# Altium footprint library LED.PcbLib: 44 footprints (part 3 of 3)
Each footprint in its own frame and in the unit in brackets; x right, y up, seen from the top. Pads: shape width x height; smd on the part's side, far side on the other; paste and mask are expansions set on the pad; w line width, h text height; cw(c..) or ccw(c..) is an arc to the next point about the centre after c.
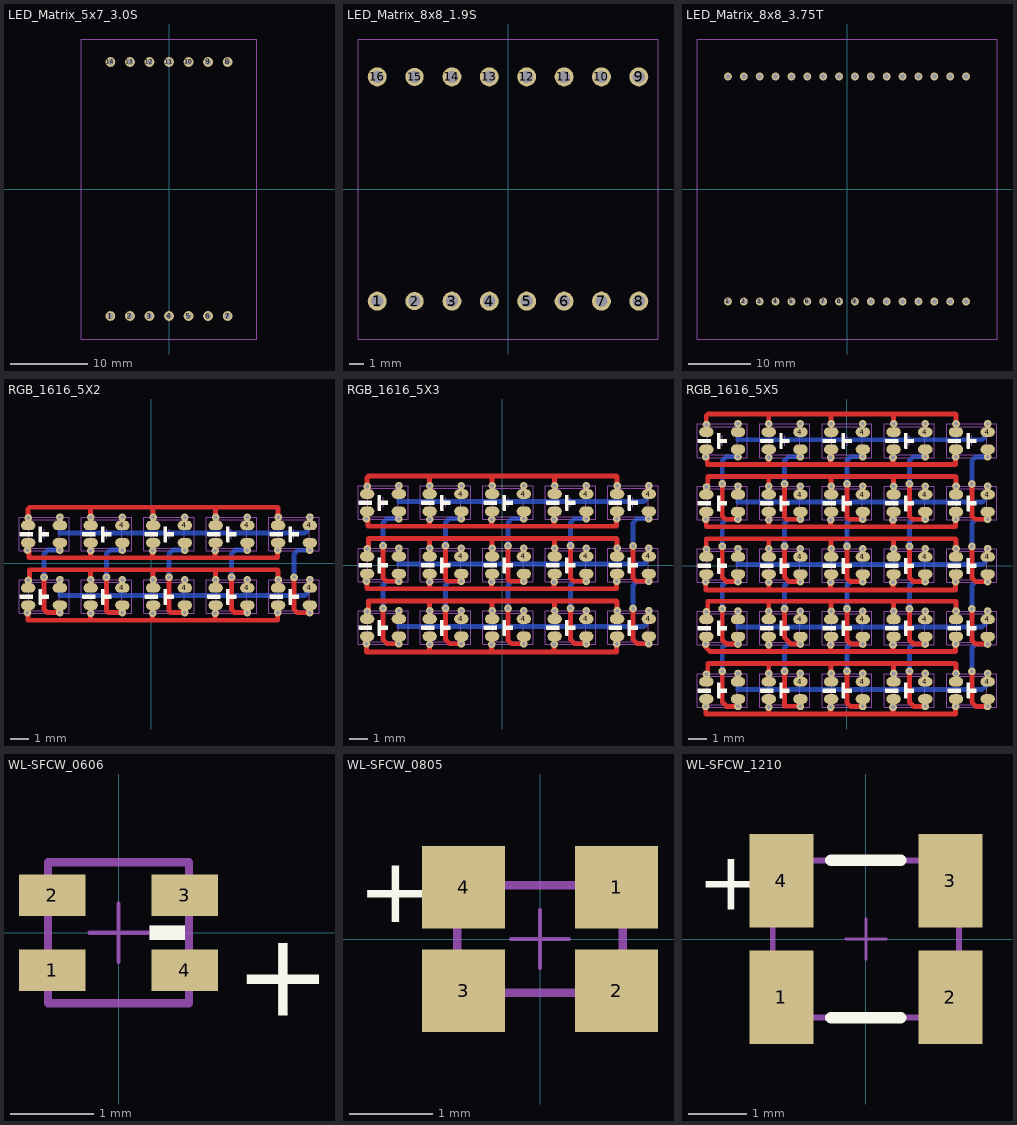
[diagram p2: the footprints below, top view; thin cyan lines are the x and y axes]

## LED_DIP2_5_RED [mil]
height 47.24
3D body "SW3dPS-LEDd5R.STEP": height 484.75, standoff -97.93, extent -123.39,-123.5 90,113.5

## LED_DIP2_5_WHITE [mil]
height 47.24
3D body "SW3dPS-LEDd5C.STEP": height 484.75, standoff -97.93, extent -107.31,-118.49 106.08,118.5

## LED_DIP2_5_YELLOW [mil]
height 47.24
3D body "SW3dPS-LEDd5Y.STEP": height 484.75, standoff -97.93, extent -113.39,-113.5 100,123.5

## LED_Matrix_5x7_3.0S [mil]
pads (14):
  round 50 hole 32: 1(-300,-650) 2(-200,-650) 3(-100,-650) 4(0,-650) 5(100,-650) 6(200,-650) 7(300,-650) 8(300,650) 9(200,650) 10(100,650) 11(0,650) 12(-100,650) 13(-200,650) 14(-300,650)
Mechanical 14:
  lines w2: -448.82,-767.72 -448.82,767.72 448.82,767.72 448.82,-767.72 -448.82,-767.72

## LED_Matrix_8x8_1.9S [mm]
pads (16):
  round 1.27 hole 0.813: 1(-8.75,-7.5) 3(-3.75,-7.5) 4(-1.25,-7.5) 5(1.25,-7.5) 6(3.75,-7.5) 7(6.25,-7.5) 8(8.75,-7.5) 9(8.75,7.5) 10(6.25,7.5) 11(3.75,7.5) 12(1.25,7.5) 13(-1.25,7.5) 14(-3.75,7.5) 16(-8.75,7.5)
  round 1.219 hole 0.813: 2(-6.25,-7.5) 15(-6.25,7.5)
Mechanical 14:
  lines w0.051: -10.033,-10.033 -10.033,10.033 10.033,10.033 10.033,-10.033 -10.033,-10.033
3D body "User Library-1_9mm matrix.STEP": height 6, standoff -5, extent -10,-10 10,10

## LED_Matrix_8x8_3.75T [mil]
pads (32):
  round 50 hole 32: 1(-750,-708.66) 2(-650,-708.66) 3(-550,-708.66) 4(-450,-708.66) 5(-350,-708.66) 6(-250,-708.66) 7(-150,-708.66) 8(-50,-708.66) 9(50,-708.66) 10(150,-708.66) 11(250,-708.66) 12(350,-708.66) 13(450,-708.66) 14(550,-708.66) 15(650,-708.66) 16(750,-708.66) 17(750,708.66) 18(650,708.66) 19(550,708.66) 20(450,708.66) 21(350,708.66) 22(250,708.66) 23(150,708.66) 24(50,708.66) 25(-50,708.66) 26(-150,708.66) 27(-250,708.66) 28(-350,708.66) 29(-450,708.66) 30(-550,708.66) 31(-650,708.66) 32(-750,708.66)
Mechanical 14:
  lines w2: -944.88,-944.88 944.88,-944.88 944.88,944.88 -944.88,944.88 -944.88,-944.88
Mechanical 15:
  lines w2: -750,708.66 -750,717.32 ; 750,-717.32 750,-708.66

## RGB_1616_5X2 [mil]
pads (67):
  oval 30x20 smd: 4(-59.92,-51.08) 4(-59.92,78.84) 4(70,-51.08) 4(70,78.84) 4(199.92,-51.08) 4(199.92,78.84) 4(329.84,-51.08) 4(329.84,78.84) ""(-255.84,-87.08) ""(-255.84,-51.08) ""(-255.84,42.84) ""(-255.84,78.84) ""(-189.84,-87.08) ""(-189.84,-51.08) ""(-189.84,42.84) ""(-189.84,78.84) ""(-125.92,-87.08) ""(-125.92,-51.08) ""(-125.92,42.84) ""(-125.92,78.84) ""(-59.92,-87.08) ""(-59.92,42.84) ""(4,-87.08) ""(4,-51.08) ""(4,42.84) ""(4,78.84) ""(70,-87.08) ""(70,42.84) ""(133.92,-87.08) ""(133.92,-51.08) ""(133.92,42.84) ""(133.92,78.84) ""(199.92,-87.08) ""(199.92,42.84) ""(263.84,-87.08) ""(263.84,-51.08) ""(263.84,42.84) ""(263.84,78.84) ""(329.84,-87.08) ""(329.84,42.84)
  round 16 hole 7.5: B1(-257.31,27.5) B1(263,27.5) B2(-257.31,-102.42) B2(263,-102.42) COM1(-190,-102.42) COM1(-190,27.5) COM2(-60.08,-102.42) COM2(-60.08,27.5) COM3(69.84,-102.42) COM3(69.84,27.5) COM4(199.76,-102.42) COM4(199.76,27.5) COM5(329.69,-102.42) COM5(329.69,27.5) G1(-255.5,94.5) G1(264,96) G2(-255.5,-35.42) G2(264,-33.92) R1(-189.84,96) R1(329.84,96) R2(-189.84,-33.92) R2(329.84,-33.92) ""(-222.76,-29) ""(-93,-29) ""(37,-29) ""(167,-29) ""(297,-29.26)
via 133.92,96 diameter 15.75 hole 7.87
via 199.92,96 diameter 15.75 hole 7.87
via 4,96 diameter 15.75 hole 7.87
via 70,96 diameter 15.75 hole 7.87
via -59.92,96 diameter 15.75 hole 7.87
via -125.92,96 diameter 15.75 hole 7.87
via 132.76,26 diameter 15.75 hole 7.87
via 2.84,26 diameter 15.75 hole 7.87
via -125.92,26 diameter 15.75 hole 7.87
via -125.92,-103.92 diameter 15.75 hole 7.87
via 2.84,-103.92 diameter 15.75 hole 7.87
via 132.76,-103.92 diameter 15.75 hole 7.87
via -125.92,-33.92 diameter 15.75 hole 7.87
via -59.92,-33.92 diameter 15.75 hole 7.87
via 70,-33.92 diameter 15.75 hole 7.87
via 4,-33.92 diameter 15.75 hole 7.87
via 199.92,-33.92 diameter 15.75 hole 7.87
via 133.92,-33.92 diameter 15.75 hole 7.87
Top Layer:
  lines w5: -257,-119.24 -256,-118.24 ; -257,-103.92 -257,-88.24 ; -257,26 -257,41.69 ; -255.84,113.5 -252.84,116.5 ; -255.5,-50.74 -255.5,-35.42 ; -255.5,79.19 -255.5,94.5 ; -190,-102.42 -190,-87.24 ; -190,27.5 -190,42.69 ; -189.84,-51.08 -189.84,-33.92 ; -189.84,78.84 -189.84,96 ; -125.92,-104.92 -125.92,-87.08 ; -125.92,-51.08 -125.92,-33.92 ; -125.92,25 -125.92,42.84 ; -125.92,78.84 -125.92,96 ; -60.08,-102.42 -60.08,-87.24 ; -60.08,27.5 -60.08,42.69 ; -59.92,-51.08 -59.92,-33.92 ; -59.92,78.84 -59.92,96 ; 2.84,-103.92 2.84,-88.24 ; 2.84,26 2.84,41.69 ; 4,-51.08 4,-33.92 ; 4,78.84 4,96 ; 69.84,-102.42 69.84,-87.24 ; 69.84,27.5 69.84,42.69 ; 70,-51.08 70,-33.92 ; 70,78.84 70,96 ; 133.92,-51.08 133.92,-33.92 ; 199.76,-102.42 199.76,-87.24 ; 199.76,27.5 199.76,42.69 ; 199.92,-51.08 199.92,-33.92 ; 199.92,78.84 199.92,96 ; 263,-102.42 263,-87.92 ; 263,-13.42 263.84,-14.26 ; 263,27.5 263,42 ; 263,116.5 263.84,115.66 ; 264,-50.92 264,-33.92 ; 264,79 264,96 ; 329.69,-102.42 329.69,-87.24 ; 329.69,27.5 329.69,42.69 ; 329.84,-51.08 329.84,-33.92 ; 329.84,78.84 329.84,96 ; 132.76,-103.92 132.76,-88.24 132.76,-103.92 ; 132.76,26 132.76,41.69 132.76,26 ; 133.92,78.84 133.92,96 133.92,78.84
  lines w10: -256,-103.74 -256,-118.24 -236.81,-118.24 262.69,-118.24 262.69,-103.92 ; -255.84,-33.92 -252.84,-30.92 -252.84,-13.42 263,-13.42 ; -255.84,96 -255.84,113.5 ; -254,27.5 -254,11.69 -236.81,11.69 262.69,11.69 262.69,26 ; -252.84,116.5 263,116.5 ; -222.76,-29 -222.76,-95.92 -216.26,-102.42 -190,-102.42 ; -125.92,-116 -125.92,-104.92 ; -125.92,-33.92 -125.92,-14.34 ; -125.92,14 -125.92,25 ; -125.92,96 -125.92,115.58 ; -93,-29 -93,-98.5 -89.08,-102.42 -60.08,-102.42 ; 2.84,-118 2.84,-103.92 ; 2.84,14 2.84,26 ; 4,-33.92 4,-13.42 ; 4,96 4,116.5 ; 37,-29 37,-98.84 40.58,-102.42 69.84,-102.42 ; 132.76,-116 132.76,-103.92 ; 132.76,15 132.76,26 ; 133.92,-33.92 133.92,-14.34 ; 133.92,96 133.92,115.58 ; 167,-29 167,-95.92 173.5,-102.42 199.76,-102.42 ; 263.84,-33.92 263.84,-14.26 ; 263.84,96 263.84,115.66 ; 297,-29.26 297,-96.19 303.5,-102.69 329.76,-102.69
Bottom Layer:
  lines w10: -222.76,-29 -222.76,19 ; -222.76,19.5 -214.76,27.5 -190,27.5 ; -189.84,-33.92 -189.84,-64.76 -189.84,-66.92 318.69,-66.92 329.84,-55.76 329.84,-33.92 ; -189.84,96 -189.84,65.16 -189.84,63 318.69,63 329.84,74.16 329.84,96 ; -93,-29 -93,19 ; -93,19.5 -85,27.5 -60.24,27.5 ; -60.5,-65.92 -60.5,-34.5 ; -60.5,64 -60.5,95.42 ; 37,-29 37,19 ; 37,19.5 45,27.5 69.76,27.5 ; 69,-65.92 69,-34.92 ; 69,64 69,95 ; 167,-29 167,19 167,19.5 175,27.5 199.76,27.5 ; 199.92,-66.42 199.92,-33.92 ; 199.92,63.5 199.92,96 ; 297,-29.26 297,18.74 ; 297,19.24 305,27.24 329.76,27.24 ; 329.34,-102.76 329.69,-102.42
Top Overlay:
  drawing of 140 lines, arcs and shapes, not listed
Mechanical 13:
  lines w2: -232.84,-69.08 -212.84,-69.08 ; -232.84,60.84 -212.84,60.84 ; -222.84,-79.08 -222.84,-59.08 ; -222.84,50.84 -222.84,70.84 ; -102.92,-69.08 -82.92,-69.08 ; -102.92,60.84 -82.92,60.84 ; -92.92,-79.08 -92.92,-59.08 ; -92.92,50.84 -92.92,70.84 ; 27,-69.08 47,-69.08 ; 27,60.84 47,60.84 ; 37,-79.08 37,-59.08 ; 37,50.84 37,70.84 ; 156.92,-69.08 176.92,-69.08 ; 156.92,60.84 176.92,60.84 ; 166.92,-79.08 166.92,-59.08 ; 166.92,50.84 166.92,70.84 ; 286.84,-69.08 306.84,-69.08 ; 286.84,60.84 306.84,60.84 ; 296.84,-79.08 296.84,-59.08 ; 296.84,50.84 296.84,70.84 ; -254.34,-98.61 -254.34,-39.55 -191.35,-39.55 -191.35,-98.61 -254.34,-98.61 ; -254.34,31.31 -191.35,31.31 -191.35,90.37 -254.34,90.37 -254.34,31.31 ; -124.42,-98.61 -61.43,-98.61 -61.43,-39.55 -124.42,-39.55 -124.42,-98.61 ; -124.42,31.31 -124.42,90.37 -61.43,90.37 -61.43,31.31 -124.42,31.31 ; 5.5,-98.61 68.49,-98.61 68.49,-39.55 5.5,-39.55 5.5,-98.61 ; 5.5,31.31 5.5,90.37 68.49,90.37 68.49,31.31 5.5,31.31 ; 135.42,-98.61 198.41,-98.61 198.41,-39.55 135.42,-39.55 135.42,-98.61 ; 135.42,31.31 135.42,90.37 198.41,90.37 198.41,31.31 135.42,31.31 ; 265.34,-98.61 328.34,-98.61 328.34,-39.55 265.34,-39.55 265.34,-98.61 ; 265.34,31.31 265.34,90.37 328.34,90.37 328.34,31.31 265.34,31.31
Mechanical 14:
  lines w2: -274.84,-104.08 -274.84,-34.08 -170.84,-34.08 -170.84,-104.08 -274.84,-104.08 ; -274.84,25.84 -170.84,25.84 -170.84,95.84 -274.84,95.84 -274.84,25.84 ; -144.92,-104.08 -40.92,-104.08 -40.92,-34.08 -144.92,-34.08 -144.92,-104.08 ; -144.92,25.84 -144.92,95.84 -40.92,95.84 -40.92,25.84 -144.92,25.84 ; -15,-104.08 89,-104.08 89,-34.08 -15,-34.08 -15,-104.08 ; -15,25.84 -15,95.84 89,95.84 89,25.84 -15,25.84 ; 114.92,-104.08 218.92,-104.08 218.92,-34.08 114.92,-34.08 114.92,-104.08 ; 114.92,25.84 114.92,95.84 218.92,95.84 218.92,25.84 114.92,25.84 ; 244.84,-104.08 348.84,-104.08 348.84,-34.08 244.84,-34.08 244.84,-104.08 ; 244.84,25.84 244.84,95.84 348.84,95.84 348.84,25.84 244.84,25.84
3D body "User Library-HSMF-C114.STEP": height 13.39, standoff -0.39, extent 265.34,31.31 328.34,90.37
3D body "User Library-HSMF-C114.STEP": height 13.39, standoff -0.39, extent 135.42,31.31 198.41,90.37
3D body "User Library-HSMF-C114.STEP": height 13.39, standoff -0.39, extent 5.5,31.31 68.49,90.37
3D body "User Library-HSMF-C114.STEP": height 13.39, standoff -0.39, extent -124.42,31.31 -61.43,90.37
3D body "User Library-HSMF-C114.STEP": height 13.39, standoff -0.39, extent -254.34,31.31 -191.35,90.37
3D body "User Library-HSMF-C114.STEP": height 13.39, standoff -0.39, extent -254.34,-98.61 -191.35,-39.55
3D body "User Library-HSMF-C114.STEP": height 13.39, standoff -0.39, extent -124.42,-98.61 -61.43,-39.55
3D body "User Library-HSMF-C114.STEP": height 13.39, standoff -0.39, extent 5.5,-98.61 68.49,-39.55
3D body "User Library-HSMF-C114.STEP": height 13.39, standoff -0.39, extent 135.42,-98.61 198.41,-39.55
3D body "User Library-HSMF-C114.STEP": height 13.39, standoff -0.39, extent 265.34,-98.61 328.34,-39.55

## RGB_1616_5X3 [mil]
pads (103):
  oval 30x20 smd: 4(-84.92,-112) 4(-84.92,17.92) 4(-84.92,147.84) 4(45,-112) 4(45,17.92) 4(45,147.84) 4(174.92,-112) 4(174.92,17.92) 4(174.92,147.84) 4(304.84,-112) 4(304.84,17.92) 4(304.84,147.84) ""(-280.84,-148) ""(-280.84,-112) ""(-280.84,-18.08) ""(-280.84,17.92) ""(-280.84,111.84) ""(-280.84,147.84) ""(-214.84,-148) ""(-214.84,-112) ""(-214.84,-18.08) ""(-214.84,17.92) ""(-214.84,111.84) ""(-214.84,147.84) ""(-150.92,-148) ""(-150.92,-112) ""(-150.92,-18.08) ""(-150.92,17.92) ""(-150.92,111.84) ""(-150.92,147.84) ""(-84.92,-148) ""(-84.92,-18.08) ""(-84.92,111.84) ""(-21,-148) ""(-21,-112) ""(-21,-18.08) ""(-21,17.92) ""(-21,111.84) ""(-21,147.84) ""(45,-148) ""(45,-18.08) ""(45,111.84) ""(108.92,-148) ""(108.92,-112) ""(108.92,-18.08) ""(108.92,17.92) ""(108.92,111.84) ""(108.92,147.84) ""(174.92,-148) ""(174.92,-18.08) ""(174.92,111.84) ""(238.84,-148) ""(238.84,-112) ""(238.84,-18.08) ""(238.84,17.92) ""(238.84,111.84) ""(238.84,147.84) ""(304.84,-148) ""(304.84,-18.08) ""(304.84,111.84)
  round 16 hole 7.5: B1(-282.31,96.5) B1(238,96.5) B2(-282.31,-33.42) B2(238,-33.42) B3(-282.31,-163.34) B3(238,-163.34) COM1(-215,-163.34) COM1(-215,-33.42) COM1(-215,96.5) COM2(-85.08,-163.34) COM2(-85.08,-33.42) COM2(-85.08,96.5) COM3(44.84,-163.34) COM3(44.84,-33.42) COM3(44.84,96.5) COM4(174.76,-163.34) COM4(174.76,-33.42) COM4(174.76,96.5) COM5(304.69,-163.34) COM5(304.69,-33.42) COM5(304.69,96.5) G1(-280.5,163.5) G1(239,165) G2(-280.5,33.58) G2(239,35.08) G3(-280.5,-96.34) G3(239,-94.84) R1(-214.84,165) R1(304.84,165) R2(-214.84,35.08) R2(304.84,35.08) R3(-214.84,-94.84) R3(304.84,-94.84) ""(-247.76,-90) ""(-247.76,40) ""(-118,-90) ""(-118,40) ""(12,-90) ""(12,40) ""(142,-90) ""(142,40) ""(272,-90.26) ""(272,39.74)
via 108.92,165 diameter 15.75 hole 7.87
via 174.92,165 diameter 15.75 hole 7.87
via -21,165 diameter 15.75 hole 7.87
via 45,165 diameter 15.75 hole 7.87
via -84.92,165 diameter 15.75 hole 7.87
via -150.92,165 diameter 15.75 hole 7.87
via 107.76,95 diameter 15.75 hole 7.87
via -22.16,95 diameter 15.75 hole 7.87
via -150.92,95 diameter 15.75 hole 7.87
via -150.92,-34.92 diameter 15.75 hole 7.87
via -22.16,-34.92 diameter 15.75 hole 7.87
via 107.76,-34.92 diameter 15.75 hole 7.87
via -150.92,35.08 diameter 15.75 hole 7.87
via -84.92,35.08 diameter 15.75 hole 7.87
via 45,35.08 diameter 15.75 hole 7.87
via -21,35.08 diameter 15.75 hole 7.87
via 174.92,35.08 diameter 15.75 hole 7.87
via 108.92,35.08 diameter 15.75 hole 7.87
via -150.92,-164.84 diameter 15.75 hole 7.87
via -22.16,-164.84 diameter 15.75 hole 7.87
via 107.76,-164.84 diameter 15.75 hole 7.87
via -150.92,-94.84 diameter 15.75 hole 7.87
via -84.92,-94.84 diameter 15.75 hole 7.87
via 45,-94.84 diameter 15.75 hole 7.87
via -21,-94.84 diameter 15.75 hole 7.87
via 174.92,-94.84 diameter 15.75 hole 7.87
via 108.92,-94.84 diameter 15.75 hole 7.87
Top Layer:
  lines w5: -282,-164.84 -282,-149.16 ; -282,-50.24 -281,-49.24 ; -282,-34.92 -282,-19.24 ; -282,95 -282,110.69 ; -280.84,182.5 -277.84,185.5 ; -280.5,-111.66 -280.5,-96.34 ; -280.5,18.26 -280.5,33.58 ; -280.5,148.19 -280.5,163.5 ; -215,-163.34 -215,-148.16 ; -215,-33.42 -215,-18.24 ; -215,96.5 -215,111.69 ; -214.84,-112 -214.84,-94.84 ; -214.84,17.92 -214.84,35.08 ; -214.84,147.84 -214.84,165 ; -150.92,-165.84 -150.92,-148 ; -150.92,-112 -150.92,-94.84 ; -150.92,-35.92 -150.92,-18.08 ; -150.92,17.92 -150.92,35.08 ; -150.92,94 -150.92,111.84 ; -150.92,147.84 -150.92,165 ; -85.08,-163.34 -85.08,-148.16 ; -85.08,-33.42 -85.08,-18.24 ; -85.08,96.5 -85.08,111.69 ; -84.92,-112 -84.92,-94.84 ; -84.92,17.92 -84.92,35.08 ; -84.92,147.84 -84.92,165 ; -22.16,-164.84 -22.16,-149.16 ; -22.16,-34.92 -22.16,-19.24 ; -22.16,95 -22.16,110.69 ; -21,-112 -21,-94.84 ; -21,17.92 -21,35.08 ; -21,147.84 -21,165 ; 44.84,-163.34 44.84,-148.16 ; 44.84,-33.42 44.84,-18.24 ; 44.84,96.5 44.84,111.69 ; 45,-112 45,-94.84 ; 45,17.92 45,35.08 ; 45,147.84 45,165 ; 108.92,-112 108.92,-94.84 ; 108.92,17.92 108.92,35.08 ; 174.76,-163.34 174.76,-148.16 ; 174.76,-33.42 174.76,-18.24 ; 174.76,96.5 174.76,111.69 ; 174.92,-112 174.92,-94.84 ; 174.92,17.92 174.92,35.08 ; 174.92,147.84 174.92,165 ; 238,-163.34 238,-148.84 ; 238,-74.34 238.84,-75.19 ; 238,-33.42 238,-18.92 ; 238,55.58 238.84,54.74 ; 238,96.5 238,111 ; 238,185.5 238.84,184.66 ; 239,-111.84 239,-94.84 ; 239,18.08 239,35.08 ; 239,148 239,165 ; 304.69,-163.34 304.69,-148.16 ; 304.69,-33.42 304.69,-18.24 ; 304.69,96.5 304.69,111.69 ; 304.84,-112 304.84,-94.84 ; 304.84,17.92 304.84,35.08 ; 304.84,147.84 304.84,165 ; 107.76,-164.84 107.76,-149.16 107.76,-164.84 ; 107.76,-34.92 107.76,-19.24 107.76,-34.92 ; 107.76,95 107.76,110.69 107.76,95 ; 108.92,147.84 108.92,165 108.92,147.84
  lines w10: -282,-164.84 -282,-180.84 -263.5,-180.84 237.69,-180.84 237.69,-164.84 ; -281,-34.74 -281,-49.24 -261.81,-49.24 237.69,-49.24 237.69,-34.92 ; -280.84,-94.84 -277.84,-91.84 -277.84,-74.34 238,-74.34 ; -280.84,35.08 -277.84,38.08 -277.84,55.58 238,55.58 ; -280.84,165 -280.84,182.5 ; -279,96.5 -279,80.69 -261.81,80.69 237.69,80.69 237.69,95 ; -277.84,185.5 238,185.5 ; -247.76,-90 -247.76,-154.89 -239.31,-163.34 -215,-163.34 ; -247.76,40 -247.76,-26.92 -241.26,-33.42 -215,-33.42 ; -150.92,-176 -150.92,-165.84 ; -150.92,-94.84 -150.92,-75.26 ; -150.92,-47 -150.92,-35.92 ; -150.92,35.08 -150.92,54.66 ; -150.92,83 -150.92,94 ; -150.92,165 -150.92,184.58 ; -118,-90 -118,-154.34 -109,-163.34 -85.08,-163.34 ; -118,40 -118,-29.5 -114.08,-33.42 -85.08,-33.42 ; -22.16,-176 -22.16,-164.84 ; -22.16,-49 -22.16,-34.92 ; -22.16,83 -22.16,95 ; -21,-94.84 -21,-74.34 ; -21,35.08 -21,55.58 ; -21,165 -21,185.5 ; 12,-90 12,-156.34 19,-163.34 44.84,-163.34 ; 12,40 12,-29.84 15.58,-33.42 44.84,-33.42 ; 107.76,-176 107.76,-164.84 ; 107.76,-47 107.76,-34.92 ; 107.76,84 107.76,95 ; 108.92,-94.84 108.92,-75.26 ; 108.92,35.08 108.92,54.66 ; 108.92,165 108.92,184.58 ; 142,-90 142,-154.89 150.45,-163.34 174.76,-163.34 ; 142,40 142,-26.92 148.5,-33.42 174.76,-33.42 ; 238.84,-94.84 238.84,-75.19 ; 238.84,35.08 238.84,54.74 ; 238.84,165 238.84,184.66 ; 272,-90.26 272,-155.16 280.45,-163.61 304.76,-163.61 ; 272,39.74 272,-27.19 278.5,-33.69 304.76,-33.69
Bottom Layer:
  lines w10: -247.76,-90 -247.76,-42 ; -247.76,-41.5 -239.76,-33.5 -215.08,-33.5 ; -247.76,40 -247.76,88 ; -247.76,88.5 -239.76,96.5 -215,96.5 ; -214.84,-94.84 -214.84,-125.69 -214.84,-127.84 293.69,-127.84 304.84,-116.69 304.84,-94.84 ; -214.84,35.08 -214.84,4.24 -214.84,2.08 293.69,2.08 304.84,13.24 304.84,35.08 ; -214.84,165 -214.84,134.16 -214.84,132 293.69,132 304.84,143.16 304.84,165 ; -118,-90 -118,-42 ; -118,-41.5 -110,-33.5 -85.24,-33.5 ; -118,40 -118,88 ; -118,88.5 -110,96.5 -85.24,96.5 ; -85.5,-126.84 -85.5,-95.42 ; -85.5,3.08 -85.5,34.5 ; -85.5,133 -85.5,164.42 ; 12,-90 12,-42 ; 12,-41.5 20,-33.5 44.76,-33.5 ; 12,40 12,88 ; 12,88.5 20,96.5 44.76,96.5 ; 44,-126.84 44,-95.84 ; 44,3.08 44,34.08 ; 44,133 44,164 ; 142,-90 142,-42 ; 142,-41.5 150,-33.5 174.76,-33.5 ; 142,40 142,88 142,88.5 150,96.5 174.76,96.5 ; 174.92,-127.34 174.92,-94.84 ; 174.92,2.58 174.92,35.08 ; 174.92,132.5 174.92,165 ; 272,-90.26 272,-42.26 ; 272,-41.76 280,-33.76 304.34,-33.76 304.69,-33.42 ; 272,39.74 272,87.74 ; 272,88.24 280,96.24 304.76,96.24 ; 304.26,-163.76 304.69,-163.34
Top Overlay:
  drawing of 210 lines, arcs and shapes, not listed
Mechanical 13:
  lines w2: -257.84,-130 -237.84,-130 ; -257.84,-0.08 -237.84,-0.08 ; -257.84,129.84 -237.84,129.84 ; -247.84,-140 -247.84,-120 ; -247.84,-10.08 -247.84,9.92 ; -247.84,119.84 -247.84,139.84 ; -127.92,-130 -107.92,-130 ; -127.92,-0.08 -107.92,-0.08 ; -127.92,129.84 -107.92,129.84 ; -117.92,-140 -117.92,-120 ; -117.92,-10.08 -117.92,9.92 ; -117.92,119.84 -117.92,139.84 ; 2,-130 22,-130 ; 2,-0.08 22,-0.08 ; 2,129.84 22,129.84 ; 12,-140 12,-120 ; 12,-10.08 12,9.92 ; 12,119.84 12,139.84 ; 131.92,-130 151.92,-130 ; 131.92,-0.08 151.92,-0.08 ; 131.92,129.84 151.92,129.84 ; 141.92,-140 141.92,-120 ; 141.92,-10.08 141.92,9.92 ; 141.92,119.84 141.92,139.84 ; 261.84,-130 281.84,-130 ; 261.84,-0.08 281.84,-0.08 ; 261.84,129.84 281.84,129.84 ; 271.84,-140 271.84,-120 ; 271.84,-10.08 271.84,9.92 ; 271.84,119.84 271.84,139.84 ; -279.34,-159.53 -279.34,-100.48 -216.35,-100.48 -216.35,-159.53 -279.34,-159.53 ; -279.34,-29.61 -279.34,29.45 -216.35,29.45 -216.35,-29.61 -279.34,-29.61 ; -279.34,100.31 -216.35,100.31 -216.35,159.37 -279.34,159.37 -279.34,100.31 ; -149.42,-159.53 -86.43,-159.53 -86.43,-100.48 -149.42,-100.48 -149.42,-159.53 ; -149.42,-29.61 -86.43,-29.61 -86.43,29.45 -149.42,29.45 -149.42,-29.61 ; -149.42,100.31 -149.42,159.37 -86.43,159.37 -86.43,100.31 -149.42,100.31 ; -19.5,-159.53 43.49,-159.53 43.49,-100.48 -19.5,-100.48 -19.5,-159.53 ; -19.5,-29.61 43.49,-29.61 43.49,29.45 -19.5,29.45 -19.5,-29.61 ; -19.5,100.31 -19.5,159.37 43.49,159.37 43.49,100.31 -19.5,100.31 ; 110.42,-159.53 173.41,-159.53 173.41,-100.48 110.42,-100.48 110.42,-159.53 ; 110.42,-29.61 173.41,-29.61 173.41,29.45 110.42,29.45 110.42,-29.61 ; 110.42,100.31 110.42,159.37 173.41,159.37 173.41,100.31 110.42,100.31 ; 240.34,-159.53 303.34,-159.53 303.34,-100.48 240.34,-100.48 240.34,-159.53 ; 240.34,-29.61 303.34,-29.61 303.34,29.45 240.34,29.45 240.34,-29.61 ; 240.34,100.31 240.34,159.37 303.34,159.37 303.34,100.31 240.34,100.31
Mechanical 14:
  lines w2: -299.84,-165 -299.84,-95 -195.84,-95 -195.84,-165 -299.84,-165 ; -299.84,-35.08 -299.84,34.92 -195.84,34.92 -195.84,-35.08 -299.84,-35.08 ; -299.84,94.84 -195.84,94.84 -195.84,164.84 -299.84,164.84 -299.84,94.84 ; -169.92,-165 -65.92,-165 -65.92,-95 -169.92,-95 -169.92,-165 ; -169.92,-35.08 -65.92,-35.08 -65.92,34.92 -169.92,34.92 -169.92,-35.08 ; -169.92,94.84 -169.92,164.84 -65.92,164.84 -65.92,94.84 -169.92,94.84 ; -40,-165 64,-165 64,-95 -40,-95 -40,-165 ; -40,-35.08 64,-35.08 64,34.92 -40,34.92 -40,-35.08 ; -40,94.84 -40,164.84 64,164.84 64,94.84 -40,94.84 ; 89.92,-165 193.92,-165 193.92,-95 89.92,-95 89.92,-165 ; 89.92,-35.08 193.92,-35.08 193.92,34.92 89.92,34.92 89.92,-35.08 ; 89.92,94.84 89.92,164.84 193.92,164.84 193.92,94.84 89.92,94.84 ; 219.84,-165 323.84,-165 323.84,-95 219.84,-95 219.84,-165 ; 219.84,-35.08 323.84,-35.08 323.84,34.92 219.84,34.92 219.84,-35.08 ; 219.84,94.84 219.84,164.84 323.84,164.84 323.84,94.84 219.84,94.84
3D body "User Library-HSMF-C114.STEP": height 13.39, standoff -0.39, extent 240.34,100.31 303.34,159.37
3D body "User Library-HSMF-C114.STEP": height 13.39, standoff -0.39, extent 110.42,100.31 173.41,159.37
3D body "User Library-HSMF-C114.STEP": height 13.39, standoff -0.39, extent -19.5,100.31 43.49,159.37
3D body "User Library-HSMF-C114.STEP": height 13.39, standoff -0.39, extent -149.42,100.31 -86.43,159.37
3D body "User Library-HSMF-C114.STEP": height 13.39, standoff -0.39, extent -279.34,100.31 -216.35,159.37
3D body "User Library-HSMF-C114.STEP": height 13.39, standoff -0.39, extent -279.34,-29.61 -216.35,29.45
3D body "User Library-HSMF-C114.STEP": height 13.39, standoff -0.39, extent -149.42,-29.61 -86.43,29.45
3D body "User Library-HSMF-C114.STEP": height 13.39, standoff -0.39, extent -19.5,-29.61 43.49,29.45
3D body "User Library-HSMF-C114.STEP": height 13.39, standoff -0.39, extent 110.42,-29.61 173.41,29.45
3D body "User Library-HSMF-C114.STEP": height 13.39, standoff -0.39, extent 240.34,-29.61 303.34,29.45
3D body "User Library-HSMF-C114.STEP": height 13.39, standoff -0.39, extent -279.34,-159.53 -216.35,-100.48
3D body "User Library-HSMF-C114.STEP": height 13.39, standoff -0.39, extent -149.42,-159.53 -86.43,-100.48
3D body "User Library-HSMF-C114.STEP": height 13.39, standoff -0.39, extent -19.5,-159.53 43.49,-100.48
3D body "User Library-HSMF-C114.STEP": height 13.39, standoff -0.39, extent 110.42,-159.53 173.41,-100.48
3D body "User Library-HSMF-C114.STEP": height 13.39, standoff -0.39, extent 240.34,-159.53 303.34,-100.48

## RGB_1616_5X5 [mil]
pads (175):
  oval 30x20 smd: 4(-96.92,-241.84) 4(-96.92,-111.92) 4(-96.92,18) 4(-96.92,147.92) 4(-96.92,277.84) 4(33,-241.84) 4(33,-111.92) 4(33,18) 4(33,147.92) 4(33,277.84) 4(162.92,-241.84) 4(162.92,-111.92) 4(162.92,18) 4(162.92,147.92) 4(162.92,277.84) 4(292.84,-241.84) 4(292.84,-111.92) 4(292.84,18) 4(292.84,147.92) 4(292.84,277.84) ""(-292.84,-277.84) ""(-292.84,-241.84) ""(-292.84,-147.92) ""(-292.84,-111.92) ""(-292.84,-18) ""(-292.84,18) ""(-292.84,111.92) ""(-292.84,147.92) ""(-292.84,241.84) ""(-292.84,277.84) ""(-226.84,-277.84) ""(-226.84,-241.84) ""(-226.84,-147.92) ""(-226.84,-111.92) ""(-226.84,-18) ""(-226.84,18) ""(-226.84,111.92) ""(-226.84,147.92) ""(-226.84,241.84) ""(-226.84,277.84) ""(-162.92,-277.84) ""(-162.92,-241.84) ""(-162.92,-147.92) ""(-162.92,-111.92) ""(-162.92,-18) ""(-162.92,18) ""(-162.92,111.92) ""(-162.92,147.92) ""(-162.92,241.84) ""(-162.92,277.84) ""(-96.92,-277.84) ""(-96.92,-147.92) ""(-96.92,-18) ""(-96.92,111.92) ""(-96.92,241.84) ""(-33,-277.84) ""(-33,-241.84) ""(-33,-147.92) ""(-33,-111.92) ""(-33,-18) ""(-33,18) ""(-33,111.92) ""(-33,147.92) ""(-33,241.84) ""(-33,277.84) ""(33,-277.84) ""(33,-147.92) ""(33,-18) ""(33,111.92) ""(33,241.84) ""(96.92,-277.84) ""(96.92,-241.84) ""(96.92,-147.92) ""(96.92,-111.92) ""(96.92,-18) ""(96.92,18) ""(96.92,111.92) ""(96.92,147.92) ""(96.92,241.84) ""(96.92,277.84) ""(162.92,-277.84) ""(162.92,-147.92) ""(162.92,-18) ""(162.92,111.92) ""(162.92,241.84) ""(226.84,-277.84) ""(226.84,-241.84) ""(226.84,-147.92) ""(226.84,-111.92) ""(226.84,-18) ""(226.84,18) ""(226.84,111.92) ""(226.84,147.92) ""(226.84,241.84) ""(226.84,277.84) ""(292.84,-277.84) ""(292.84,-147.92) ""(292.84,-18) ""(292.84,111.92) ""(292.84,241.84)
  round 16 hole 7.5: B1(-294.31,226.5) B1(226,226.5) B2(-294.31,96.58) B2(226,96.58) B3(-294.31,-33.34) B3(226,-33.34) B4(-294.31,-163.26) B4(226,-163.26) B5(-294.31,-293.19) B5(226,-293.19) COM1(-227,-293.19) COM1(-227,-163.26) COM1(-227,-33.34) COM1(-227,96.58) COM1(-227,226.5) COM2(-97.08,-293.19) COM2(-97.08,-163.26) COM2(-97.08,-33.34) COM2(-97.08,96.58) COM2(-97.08,226.5) COM3(32.84,-293.19) COM3(32.84,-163.26) COM3(32.84,-33.34) COM3(32.84,96.58) COM3(32.84,226.5) COM4(162.76,-293.19) COM4(162.76,-163.26) COM4(162.76,-33.34) COM4(162.76,96.58) COM4(162.76,226.5) COM5(292.69,-293.19) COM5(292.69,-163.26) COM5(292.69,-33.34) COM5(292.69,96.58) COM5(292.69,226.5) G1(-292.5,293.5) G1(227,295) G2(-292.5,163.58) G2(227,165.08) G3(-292.5,33.66) G3(227,35.16) G4(-292.5,-96.26) G4(227,-94.76) G5(-292.5,-226.19) G5(227,-224.69) R1(-226.84,295) R1(292.84,295) R2(-226.84,165.08) R2(292.84,165.08) R3(-226.84,35.16) R3(292.84,35.16) R4(-226.84,-94.76) R4(292.84,-94.76) R5(-226.84,-224.69) R5(292.84,-224.69) ""(-259.76,-220) ""(-259.76,-90) ""(-259.76,40) ""(-259.76,170) ""(-130,-220) ""(-130,-90) ""(-130,40) ""(-130,170) ""(0,-220) ""(0,-90) ""(0,40) ""(0,170) ""(130,-220) ""(130,-90) ""(130,40) ""(130,170) ""(260,-220.26) ""(260,-90.26) ""(260,39.74) ""(260,169.74)
via 96.92,295 diameter 15.75 hole 7.87
via 162.92,295 diameter 15.75 hole 7.87
via -33,295 diameter 15.75 hole 7.87
via 33,295 diameter 15.75 hole 7.87
via -96.92,295 diameter 15.75 hole 7.87
via -162.92,295 diameter 15.75 hole 7.87
via 95.76,225 diameter 15.75 hole 7.87
via -34.16,225 diameter 15.75 hole 7.87
via -162.92,225 diameter 15.75 hole 7.87
via -162.92,95.08 diameter 15.75 hole 7.87
via -34.16,95.08 diameter 15.75 hole 7.87
via 95.76,95.08 diameter 15.75 hole 7.87
via -162.92,165.08 diameter 15.75 hole 7.87
via -96.92,165.08 diameter 15.75 hole 7.87
via 33,165.08 diameter 15.75 hole 7.87
via -33,165.08 diameter 15.75 hole 7.87
via 162.92,165.08 diameter 15.75 hole 7.87
via 96.92,165.08 diameter 15.75 hole 7.87
via -162.92,-34.84 diameter 15.75 hole 7.87
via -34.16,-34.84 diameter 15.75 hole 7.87
via 95.76,-34.84 diameter 15.75 hole 7.87
via -162.92,35.16 diameter 15.75 hole 7.87
via -96.92,35.16 diameter 15.75 hole 7.87
via 33,35.16 diameter 15.75 hole 7.87
via -33,35.16 diameter 15.75 hole 7.87
via 162.92,35.16 diameter 15.75 hole 7.87
via 96.92,35.16 diameter 15.75 hole 7.87
via -162.92,-164.76 diameter 15.75 hole 7.87
via -34.16,-164.76 diameter 15.75 hole 7.87
via 95.76,-164.76 diameter 15.75 hole 7.87
via -162.92,-94.76 diameter 15.75 hole 7.87
via -96.92,-94.76 diameter 15.75 hole 7.87
via 33,-94.76 diameter 15.75 hole 7.87
via -33,-94.76 diameter 15.75 hole 7.87
via 162.92,-94.76 diameter 15.75 hole 7.87
via 96.92,-94.76 diameter 15.75 hole 7.87
via -162.92,-294.69 diameter 15.75 hole 7.87
via -34.16,-294.69 diameter 15.75 hole 7.87
via 95.76,-294.69 diameter 15.75 hole 7.87
via -162.92,-224.69 diameter 15.75 hole 7.87
via -96.92,-224.69 diameter 15.75 hole 7.87
via 33,-224.69 diameter 15.75 hole 7.87
via -33,-224.69 diameter 15.75 hole 7.87
via 162.92,-224.69 diameter 15.75 hole 7.87
via 96.92,-224.69 diameter 15.75 hole 7.87
Top Layer:
  lines w5: -294,-294.69 -294,-279 ; -294,-164.76 -294,-149.08 ; -294,-34.84 -294,-19.16 ; -294,79.76 -293,80.76 ; -294,95.08 -294,110.76 ; -294,225 -294,240.69 ; -292.84,312.5 -289.84,315.5 ; -292.5,-241.5 -292.5,-226.19 ; -292.5,-111.58 -292.5,-96.26 ; -292.5,18.34 -292.5,33.66 ; -292.5,148.26 -292.5,163.58 ; -292.5,278.19 -292.5,293.5 ; -227,-293.19 -227,-278 ; -227,-163.26 -227,-148.08 ; -227,-33.34 -227,-18.16 ; -227,96.58 -227,111.76 ; -227,226.5 -227,241.69 ; -226.84,-241.84 -226.84,-224.69 ; -226.84,-111.92 -226.84,-94.76 ; -226.84,18 -226.84,35.16 ; -226.84,147.92 -226.84,165.08 ; -226.84,277.84 -226.84,295 ; -162.92,-295.69 -162.92,-277.84 ; -162.92,-241.84 -162.92,-224.69 ; -162.92,-165.76 -162.92,-147.92 ; -162.92,-111.92 -162.92,-94.76 ; -162.92,-35.84 -162.92,-18 ; -162.92,18 -162.92,35.16 ; -162.92,94.08 -162.92,111.92 ; -162.92,147.92 -162.92,165.08 ; -162.92,224 -162.92,241.84 ; -162.92,277.84 -162.92,295 ; -130,-292.69 -129.5,-293.19 ; -97.58,-292.69 -97.08,-293.19 -97.08,-278 ; -97.08,-163.26 -97.08,-148.08 ; -97.08,-33.34 -97.08,-18.16 ; -97.08,96.58 -97.08,111.76 ; -97.08,226.5 -97.08,241.69 ; -96.92,-241.84 -96.92,-224.69 ; -96.92,-111.92 -96.92,-94.76 ; -96.92,18 -96.92,35.16 ; -96.92,147.92 -96.92,165.08 ; -96.92,277.84 -96.92,295 ; -34.16,-294.69 -34.16,-279 ; -34.16,-164.76 -34.16,-149.08 ; -34.16,-34.84 -34.16,-19.16 ; -34.16,95.08 -34.16,110.76 ; -34.16,225 -34.16,240.69 ; -33,-241.84 -33,-224.69 ; -33,-111.92 -33,-94.76 ; -33,18 -33,35.16 ; -33,147.92 -33,165.08 ; -33,277.84 -33,295 ; 32.84,-293.19 32.84,-278 ; 32.84,-163.26 32.84,-148.08 ; 32.84,-33.34 32.84,-18.16 ; 32.84,96.58 32.84,111.76 ; 32.84,226.5 32.84,241.69 ; 33,-241.84 33,-224.69 ; 33,-111.92 33,-94.76 ; 33,18 33,35.16 ; 33,147.92 33,165.08 ; 33,277.84 33,295 ; 96.92,-241.84 96.92,-224.69 ; 96.92,-111.92 96.92,-94.76 ; 96.92,18 96.92,35.16 ; 96.92,147.92 96.92,165.08 ; 162.76,-293.19 162.76,-278 ; 162.76,-163.26 162.76,-148.08 ; 162.76,-33.34 162.76,-18.16 ; 162.76,96.58 162.76,111.76 ; 162.76,226.5 162.76,241.69 ; 162.92,-241.84 162.92,-224.69 ; 162.92,-111.92 162.92,-94.76 ; 162.92,18 162.92,35.16 ; 162.92,147.92 162.92,165.08 ; 162.92,277.84 162.92,295 ; 226,-293.19 226,-278.69 ; 226,-204.19 226.84,-205.03 ; 226,-163.26 226,-148.76 ; 226,-74.26 226.84,-75.11 ; 226,-33.34 226,-18.84 ; 226,55.66 226.84,54.81 ; 226,96.58 226,111.08 ; 226,185.58 226.84,184.74 ; 226,226.5 226,241 ; 226,315.5 226.84,314.66 ; 227,-241.69 227,-224.69 ; 227,-111.76 227,-94.76 ; 227,18.16 227,35.16 ; 227,148.08 227,165.08 ; 227,278 227,295 ; 292.69,-293.19 292.69,-278 ; 292.69,-163.26 292.69,-148.08 ; 292.69,-33.34 292.69,-18.16 ; 292.69,96.58 292.69,111.76 ; 292.69,226.5 292.69,241.69 ; 292.84,-241.84 292.84,-224.69 ; 292.84,-111.92 292.84,-94.76 ; 292.84,18 292.84,35.16 ; 292.84,147.92 292.84,165.08 ; 292.84,277.84 292.84,295 ; 95.76,-294.69 95.76,-279 95.76,-294.69 ; 95.76,-164.76 95.76,-149.08 95.76,-164.76 ; 95.76,-34.84 95.76,-19.16 95.76,-34.84 ; 95.76,95.08 95.76,110.76 95.76,95.08 ; 95.76,225 95.76,240.69 95.76,225 ; 96.92,277.84 96.92,295 96.92,277.84
  lines w10: -294.31,-163.26 -294.31,-169.69 -284.92,-179.08 -273.81,-179.08 225.69,-179.08 ; -294,-294.69 -294,-309 -273.81,-309 225.69,-309 225.69,-294.69 ; -294,-34.84 -294,-50.84 -275.5,-50.84 225.69,-50.84 225.69,-34.84 ; -293,95.26 -293,80.76 -273.81,80.76 225.69,80.76 225.69,95.08 ; -292.84,-224.69 -289.84,-221.69 -289.84,-204.19 226,-204.19 ; -292.84,-94.76 -289.84,-91.76 -289.84,-74.26 226,-74.26 ; -292.84,35.16 -292.84,55.66 226,55.66 ; -292.84,165.08 -289.84,168.08 -289.84,185.58 226,185.58 ; -292.84,295 -292.84,312.5 ; -291,226.5 -291,210.69 -273.81,210.69 225.69,210.69 225.69,225 ; -289.84,315.5 226,315.5 ; -259.76,-220 -259.76,-284 -250.58,-293.19 -227,-293.19 ; -259.76,-90 -259.76,-154.81 -251.31,-163.26 -227,-163.26 ; -259.76,40 -259.76,-24.89 -251.31,-33.34 -227,-33.34 ; -259.76,170 -259.76,103.08 -253.26,96.58 -227,96.58 ; -163,-179.08 -163,-159.5 ; -162.92,-308 -162.92,-295.69 ; -162.92,-224.69 -162.92,-205.11 ; -162.92,-94.76 -162.92,-75.19 ; -162.92,-46 -162.92,-35.84 ; -162.92,35.16 -162.92,54.74 ; -162.92,83 -162.92,94.08 ; -162.92,165.08 -162.92,184.66 ; -162.92,213 -162.92,224 ; -162.92,295 -162.92,314.58 ; -130,-220 -130,-292.69 -97.58,-292.69 ; -130,-90 -130,-150 -116.74,-163.26 -97.08,-163.26 ; -130,40 -130,-24.34 -121,-33.34 -97.08,-33.34 ; -130,170 -130,100.5 -126.08,96.58 -97.08,96.58 ; -34.24,-178.34 -34.24,-158.5 ; -34.16,-307 -34.16,-294.69 ; -34.16,-46 -34.16,-34.84 ; -34.16,81 -34.16,95.08 ; -34.16,213 -34.16,225 ; -33,-224.69 -33,-204.19 ; -33,-94.76 -33,-74.26 ; -33,35.16 -33,55.66 ; -33,165.08 -33,185.58 ; -33,295 -33,315.5 ; 0,-220 0,-286.19 7,-293.19 32.84,-293.19 ; 0,-90 0,-155.26 8,-163.26 32.84,-163.26 ; 0,40 0,-26.34 7,-33.34 32.84,-33.34 ; 0,170 0,100.16 3.58,96.58 32.84,96.58 ; 95.69,-179.26 95.69,-158.5 ; 95.76,-309 95.76,-294.69 ; 95.76,-46 95.76,-34.84 ; 95.76,83 95.76,95.08 ; 95.76,214 95.76,225 ; 96.92,-224.69 96.92,-205.11 ; 96.92,-94.76 96.92,-75.19 ; 96.92,35.16 96.92,54.74 ; 96.92,165.08 96.92,184.66 ; 96.92,295 96.92,314.58 ; 130,-220 130,-284 139.19,-293.19 162.76,-293.19 ; 130,-90 130,-154.81 138.45,-163.26 162.76,-163.26 ; 130,40 130,-24.89 138.45,-33.34 162.76,-33.34 ; 130,170 130,103.08 136.5,96.58 162.76,96.58 ; 225.61,-179.08 225.61,-158.5 ; 226.84,-224.69 226.84,-205.03 ; 226.84,-94.76 226.84,-75.11 ; 226.84,35.16 226.84,54.81 ; 226.84,165.08 226.84,184.74 ; 226.84,295 226.84,314.66 ; 260,-220.26 260,-284.26 269.19,-293.45 292.76,-293.45 ; 260,-90.26 260,-155.08 268.45,-163.53 292.76,-163.53 ; 260,39.74 260,-25.16 268.45,-33.61 292.76,-33.61 ; 260,169.74 260,102.81 266.5,96.31 292.76,96.31
Bottom Layer:
  lines w10: -259.76,-220 -259.76,-172 ; -259.76,-171.5 -251.76,-163.5 -227.24,-163.5 ; -259.76,-90 -259.76,-42 ; -259.76,-41.5 -251.76,-33.5 -227.16,-33.5 ; -259.76,40 -259.76,88 ; -259.76,88.5 -251.76,96.5 -227.08,96.5 ; -259.76,170 -259.76,218 ; -259.76,218.5 -251.76,226.5 -227,226.5 ; -226.84,-224.69 -226.84,-255.53 -226.84,-257.69 281.69,-257.69 292.84,-246.53 292.84,-224.69 ; -226.84,-94.76 -226.84,-125.61 -226.84,-127.76 281.69,-127.76 292.84,-116.61 292.84,-94.76 ; -226.84,35.16 -226.84,4.31 -226.84,2.16 281.69,2.16 292.84,13.31 292.84,35.16 ; -226.84,165.08 -226.84,134.24 -226.84,132.08 281.69,132.08 292.84,143.24 292.84,165.08 ; -226.84,295 -226.84,264.16 -226.84,262 281.69,262 292.84,273.16 292.84,295 ; -130,-220 -130,-172 ; -130,-171.5 -122,-163.5 -97.24,-163.5 ; -130,-90 -130,-42 ; -130,-41.5 -122,-33.5 -97.24,-33.5 ; -130,40 -130,88 ; -130,88.5 -122,96.5 -97.24,96.5 ; -130,170 -130,218 ; -130,218.5 -122,226.5 -97.24,226.5 ; -97.5,-256.69 -97.5,-225.26 ; -97.5,-126.76 -97.5,-95.34 ; -97.5,3.16 -97.5,34.58 ; -97.5,133.08 -97.5,164.5 ; -97.5,263 -97.5,294.42 ; 0,-220 0,-172 ; 0,-171.5 8,-163.5 32.76,-163.5 ; 0,-90 0,-42 ; 0,-41.5 8,-33.5 32.76,-33.5 ; 0,40 0,88 ; 0,88.5 8,96.5 32.76,96.5 ; 0,170 0,218 ; 0,218.5 8,226.5 32.76,226.5 ; 32,-256.69 32,-225.69 ; 32,-126.76 32,-95.76 ; 32,3.16 32,34.16 ; 32,133.08 32,164.08 ; 32,263 32,294 ; 130,-220 130,-172 ; 130,-171.5 138,-163.5 162.76,-163.5 ; 130,-90 130,-42 ; 130,-41.5 138,-33.5 162.76,-33.5 ; 130,40 130,88 ; 130,88.5 138,96.5 162.76,96.5 ; 130,170 130,218 130,218.5 138,226.5 162.76,226.5 ; 162.92,-257.19 162.92,-224.69 ; 162.92,-127.26 162.92,-94.76 ; 162.92,2.66 162.92,35.16 ; 162.92,132.58 162.92,165.08 ; 162.92,262.5 162.92,295 ; 260,-220.26 260,-172.26 ; 260,-171.76 268,-163.76 292.19,-163.76 292.69,-163.26 ; 260,-90.26 260,-42.26 ; 260,-41.76 268,-33.76 292.26,-33.76 292.69,-33.34 ; 260,39.74 260,87.74 ; 260,88.24 268,96.24 292.34,96.24 292.69,96.58 ; 260,169.74 260,217.74 ; 260,218.24 268,226.24 292.76,226.24
Top Overlay:
  drawing of 350 lines, arcs and shapes, not listed
Mechanical 13:
  lines w2: -269.84,-259.84 -249.84,-259.84 ; -269.84,-129.92 -249.84,-129.92 ; -269.84,0 -249.84,0 ; -269.84,129.92 -249.84,129.92 ; -269.84,259.84 -249.84,259.84 ; -259.84,-269.84 -259.84,-249.84 ; -259.84,-139.92 -259.84,-119.92 ; -259.84,-10 -259.84,10 ; -259.84,119.92 -259.84,139.92 ; -259.84,249.84 -259.84,269.84 ; -139.92,-259.84 -119.92,-259.84 ; -139.92,-129.92 -119.92,-129.92 ; -139.92,0 -119.92,0 ; -139.92,129.92 -119.92,129.92 ; -139.92,259.84 -119.92,259.84 ; -129.92,-269.84 -129.92,-249.84 ; -129.92,-139.92 -129.92,-119.92 ; -129.92,-10 -129.92,10 ; -129.92,119.92 -129.92,139.92 ; -129.92,249.84 -129.92,269.84 ; -10,-259.84 10,-259.84 ; -10,-129.92 10,-129.92 ; -10,0 10,0 ; -10,129.92 10,129.92 ; -10,259.84 10,259.84 ; 0,-269.84 0,-249.84 ; 0,-139.92 0,-119.92 ; 0,-10 0,10 ; 0,119.92 0,139.92 ; 0,249.84 0,269.84 ; 119.92,-259.84 139.92,-259.84 ; 119.92,-129.92 139.92,-129.92 ; 119.92,0 139.92,0 ; 119.92,129.92 139.92,129.92 ; 119.92,259.84 139.92,259.84 ; 129.92,-269.84 129.92,-249.84 ; 129.92,-139.92 129.92,-119.92 ; 129.92,-10 129.92,10 ; 129.92,119.92 129.92,139.92 ; 129.92,249.84 129.92,269.84 ; 249.84,-259.84 269.84,-259.84 ; 249.84,-129.92 269.84,-129.92 ; 249.84,0 269.84,0 ; 249.84,129.92 269.84,129.92 ; 249.84,259.84 269.84,259.84 ; 259.84,-269.84 259.84,-249.84 ; 259.84,-139.92 259.84,-119.92 ; 259.84,-10 259.84,10 ; 259.84,119.92 259.84,139.92 ; 259.84,249.84 259.84,269.84 ; -291.34,-289.37 -291.34,-230.32 -228.35,-230.32 -228.35,-289.37 -291.34,-289.37 ; -291.34,-159.45 -291.34,-100.4 -228.35,-100.4 -228.35,-159.45 -291.34,-159.45 ; -291.34,-29.53 -291.34,29.52 -228.35,29.52 -228.35,-29.53 -291.34,-29.53 ; -291.34,100.39 -291.34,159.45 -228.35,159.45 -228.35,100.39 -291.34,100.39 ; -291.34,230.31 -228.35,230.31 -228.35,289.37 -291.34,289.37 -291.34,230.31 ; -161.42,-289.37 -98.43,-289.37 -98.43,-230.32 -161.42,-230.32 -161.42,-289.37 ; -161.42,-159.45 -98.43,-159.45 -98.43,-100.4 -161.42,-100.4 -161.42,-159.45 ; -161.42,-29.53 -98.43,-29.53 -98.43,29.52 -161.42,29.52 -161.42,-29.53 ; -161.42,100.39 -98.43,100.39 -98.43,159.45 -161.42,159.45 -161.42,100.39 ; -161.42,230.31 -161.42,289.37 -98.43,289.37 -98.43,230.31 -161.42,230.31 ; -31.5,-289.37 31.49,-289.37 31.49,-230.32 -31.5,-230.32 -31.5,-289.37 ; -31.5,-159.45 31.49,-159.45 31.49,-100.4 -31.5,-100.4 -31.5,-159.45 ; -31.5,-29.53 31.49,-29.53 31.49,29.52 -31.5,29.52 -31.5,-29.53 ; -31.5,100.39 31.49,100.39 31.49,159.45 -31.5,159.45 -31.5,100.39 ; -31.5,230.31 -31.5,289.37 31.49,289.37 31.49,230.31 -31.5,230.31 ; 98.42,-289.37 161.41,-289.37 161.41,-230.32 98.42,-230.32 98.42,-289.37 ; 98.42,-159.45 161.41,-159.45 161.41,-100.4 98.42,-100.4 98.42,-159.45 ; 98.42,-29.53 161.41,-29.53 161.41,29.52 98.42,29.52 98.42,-29.53 ; 98.42,100.39 161.41,100.39 161.41,159.45 98.42,159.45 98.42,100.39 ; 98.42,230.31 98.42,289.37 161.41,289.37 161.41,230.31 98.42,230.31 ; 228.34,-289.37 291.34,-289.37 291.34,-230.32 228.34,-230.32 228.34,-289.37 ; 228.34,-159.45 291.34,-159.45 291.34,-100.4 228.34,-100.4 228.34,-159.45 ; 228.34,-29.53 291.34,-29.53 291.34,29.52 228.34,29.52 228.34,-29.53 ; 228.34,100.39 291.34,100.39 291.34,159.45 228.34,159.45 228.34,100.39 ; 228.34,230.31 228.34,289.37 291.34,289.37 291.34,230.31 228.34,230.31
Mechanical 14:
  lines w2: -311.84,-294.84 -311.84,-224.84 -207.84,-224.84 -207.84,-294.84 -311.84,-294.84 ; -311.84,-164.92 -311.84,-94.92 -207.84,-94.92 -207.84,-164.92 -311.84,-164.92 ; -311.84,-35 -311.84,35 -207.84,35 -207.84,-35 -311.84,-35 ; -311.84,94.92 -311.84,164.92 -207.84,164.92 -207.84,94.92 -311.84,94.92 ; -311.84,224.84 -207.84,224.84 -207.84,294.84 -311.84,294.84 -311.84,224.84 ; -181.92,-294.84 -77.92,-294.84 -77.92,-224.84 -181.92,-224.84 -181.92,-294.84 ; -181.92,-164.92 -77.92,-164.92 -77.92,-94.92 -181.92,-94.92 -181.92,-164.92 ; -181.92,-35 -77.92,-35 -77.92,35 -181.92,35 -181.92,-35 ; -181.92,94.92 -77.92,94.92 -77.92,164.92 -181.92,164.92 -181.92,94.92 ; -181.92,224.84 -181.92,294.84 -77.92,294.84 -77.92,224.84 -181.92,224.84 ; -52,-294.84 52,-294.84 52,-224.84 -52,-224.84 -52,-294.84 ; -52,-164.92 52,-164.92 52,-94.92 -52,-94.92 -52,-164.92 ; -52,-35 52,-35 52,35 -52,35 -52,-35 ; -52,94.92 52,94.92 52,164.92 -52,164.92 -52,94.92 ; -52,224.84 -52,294.84 52,294.84 52,224.84 -52,224.84 ; 77.92,-294.84 181.92,-294.84 181.92,-224.84 77.92,-224.84 77.92,-294.84 ; 77.92,-164.92 181.92,-164.92 181.92,-94.92 77.92,-94.92 77.92,-164.92 ; 77.92,-35 181.92,-35 181.92,35 77.92,35 77.92,-35 ; 77.92,94.92 181.92,94.92 181.92,164.92 77.92,164.92 77.92,94.92 ; 77.92,224.84 77.92,294.84 181.92,294.84 181.92,224.84 77.92,224.84 ; 207.84,-294.84 311.84,-294.84 311.84,-224.84 207.84,-224.84 207.84,-294.84 ; 207.84,-164.92 311.84,-164.92 311.84,-94.92 207.84,-94.92 207.84,-164.92 ; 207.84,-35 311.84,-35 311.84,35 207.84,35 207.84,-35 ; 207.84,94.92 311.84,94.92 311.84,164.92 207.84,164.92 207.84,94.92 ; 207.84,224.84 207.84,294.84 311.84,294.84 311.84,224.84 207.84,224.84
3D body "User Library-HSMF-C114.STEP": height 13.39, standoff -0.39, extent 228.34,230.31 291.34,289.37
3D body "User Library-HSMF-C114.STEP": height 13.39, standoff -0.39, extent 98.42,230.31 161.41,289.37
3D body "User Library-HSMF-C114.STEP": height 13.39, standoff -0.39, extent -31.5,230.31 31.49,289.37
3D body "User Library-HSMF-C114.STEP": height 13.39, standoff -0.39, extent -161.42,230.31 -98.43,289.37
3D body "User Library-HSMF-C114.STEP": height 13.39, standoff -0.39, extent -291.34,230.31 -228.35,289.37
3D body "User Library-HSMF-C114.STEP": height 13.39, standoff -0.39, extent -291.34,100.39 -228.35,159.45
3D body "User Library-HSMF-C114.STEP": height 13.39, standoff -0.39, extent -161.42,100.39 -98.43,159.45
3D body "User Library-HSMF-C114.STEP": height 13.39, standoff -0.39, extent -31.5,100.39 31.49,159.45
3D body "User Library-HSMF-C114.STEP": height 13.39, standoff -0.39, extent 98.42,100.39 161.41,159.45
3D body "User Library-HSMF-C114.STEP": height 13.39, standoff -0.39, extent 228.34,100.39 291.34,159.45
3D body "User Library-HSMF-C114.STEP": height 13.39, standoff -0.39, extent -291.34,-29.53 -228.35,29.52
3D body "User Library-HSMF-C114.STEP": height 13.39, standoff -0.39, extent -161.42,-29.53 -98.43,29.52
3D body "User Library-HSMF-C114.STEP": height 13.39, standoff -0.39, extent -31.5,-29.53 31.49,29.52
3D body "User Library-HSMF-C114.STEP": height 13.39, standoff -0.39, extent 98.42,-29.53 161.41,29.52
3D body "User Library-HSMF-C114.STEP": height 13.39, standoff -0.39, extent 228.34,-29.53 291.34,29.52
3D body "User Library-HSMF-C114.STEP": height 13.39, standoff -0.39, extent -291.34,-159.45 -228.35,-100.4
3D body "User Library-HSMF-C114.STEP": height 13.39, standoff -0.39, extent -161.42,-159.45 -98.43,-100.4
3D body "User Library-HSMF-C114.STEP": height 13.39, standoff -0.39, extent -31.5,-159.45 31.49,-100.4
3D body "User Library-HSMF-C114.STEP": height 13.39, standoff -0.39, extent 98.42,-159.45 161.41,-100.4
3D body "User Library-HSMF-C114.STEP": height 13.39, standoff -0.39, extent 228.34,-159.45 291.34,-100.4
3D body "User Library-HSMF-C114.STEP": height 13.39, standoff -0.39, extent -291.34,-289.37 -228.35,-230.32
3D body "User Library-HSMF-C114.STEP": height 13.39, standoff -0.39, extent -161.42,-289.37 -98.43,-230.32
3D body "User Library-HSMF-C114.STEP": height 13.39, standoff -0.39, extent -31.5,-289.37 31.49,-230.32
3D body "User Library-HSMF-C114.STEP": height 13.39, standoff -0.39, extent 98.42,-289.37 161.41,-230.32
3D body "User Library-HSMF-C114.STEP": height 13.39, standoff -0.39, extent 228.34,-289.37 291.34,-230.32

## WL-SFCW_0606 [mm] "SMD Full-color Chip LED Waterclear, body 1.6x1.6"
height 0.4
pads (4):
  rect 0.8x0.5 smd: 1(-0.8,-0.45) 2(-0.8,0.45) 3(0.8,0.45) 4(0.8,-0.45)
Top Overlay:
  rectangle: 0.37,-0.09 0.8,0.09
  text "+" at 1.4,-1 h1.02
Mechanical 13:
  rectangle: 0.37,-0.09 0.8,0.09
  lines w0.1: -0.85,-0.85 0.85,-0.85 0.85,0.85 -0.85,0.85 -0.85,-0.85
Mechanical 15:
  lines w0.05: -0.35,0 0.35,0 ; 0,-0.35 0,0.35
3D body "150066M173000.stp": height 0.42, standoff 0.02, extent -0.8,-0.8 0.8,0.8

## WL-SFCW_0805 [mm] "SMD Full-color Chip LED Waterclear, body 2.0x1.3"
height 0.5
pads (4):
  rect 1x1 smd: 1(0.925,0.625) 2(0.925,-0.625) 3(-0.925,-0.625) 4(-0.925,0.625)
Top Overlay:
  text "+" at -2.2,0.2 h0.8
Mechanical 13:
  lines w0.1: -1,-0.65 1,-0.65 1,0.65 -1,0.65 -1,-0.65
Mechanical 15:
  lines w0.05: -0.35,0 0.35,0 ; 0,-0.35 0,0.35
3D body "150080M173000.stp": height 0.52, standoff 0.02, extent -1,-0.65 1,0.65

## WL-SFCW_1210 [mm] "SMD Full-color Chip LED Waterclear, body 3.2x2.7"
height 1.1
pads (4):
  rect 1.1x1.6 smd: 1(-1.45,-1) 2(1.45,-1) 3(1.45,1) 4(-1.45,1)
Top Overlay:
  lines w0.2: -0.6,-1.35 0.6,-1.35 ; -0.6,1.35 0.6,1.35
  text "+" at -2.9,0.5 h1.02
Mechanical 13:
  lines w0.1: -1.6,-1.35 -1.6,1.35 1.6,1.35 1.6,-1.35 -1.6,-1.35
Mechanical 15:
  lines w0.05: -0.35,0 0.35,0 ; 0,-0.35 0,0.35
3D body "150121M173000.stp": height 1.11, standoff 0.01, extent -1.6,-1.35 1.6,1.35